# Altium integrated library Renesas Microcontroller H8S.IntLib: 670 symbols (part 50 of 70)
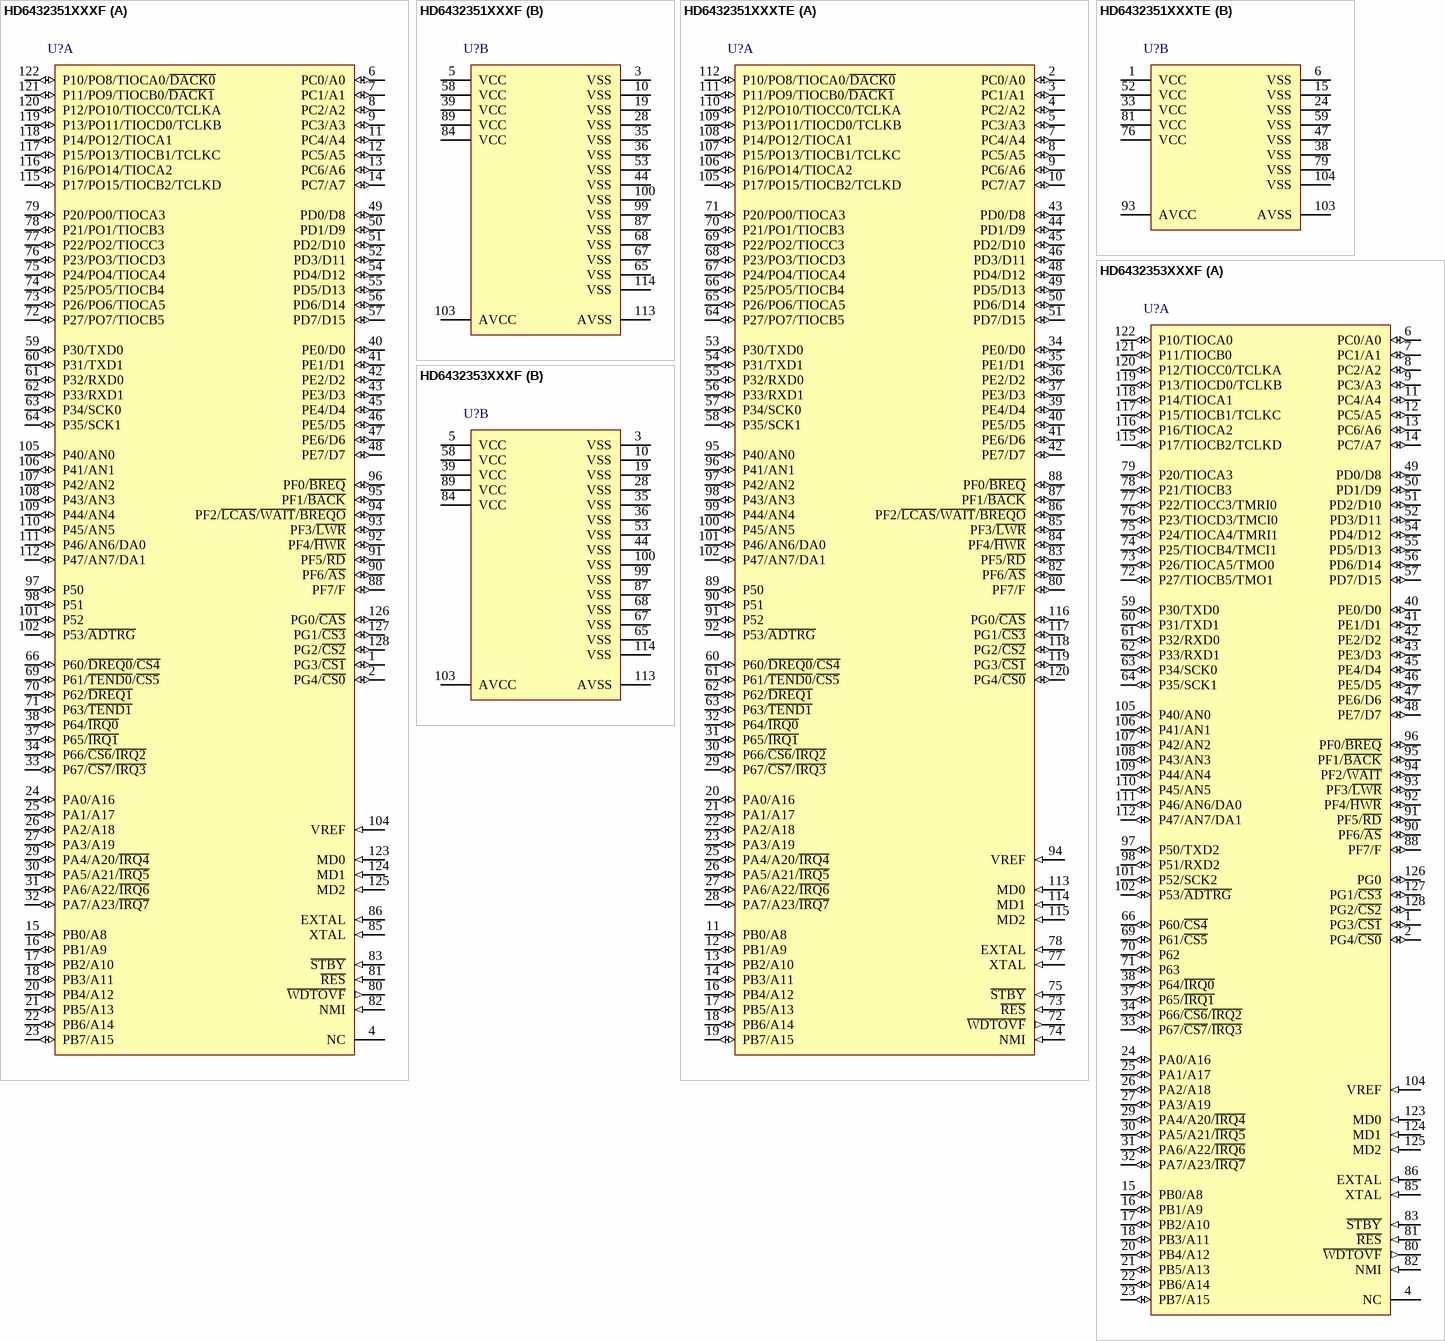
[diagram p369: symbols HD6432351XXXF to HD6432353XXXF]

## HD6432351XXXF
designator U?
Mask ROM H8S/2300 Series, 2350 Group MCU, 64K ROM, 2K RAM, FP-128B Pkg; Published: 28-Aug-2009; DatasheetVersion: Rev.3.00, Sep-2006; PackageVersion: Sep-2005; PackageReference: PRQP0128KB-A; Publisher: Altium Limited; PackageDescription: 128-Pin Plastic Quad Flat Pack, 20 x 14 x 2.7 mm Body, 0.5 mm Pitch; Code_JEITA: P-QFP128-14x20-0.50; Code_IPC: SQFP50P1600X2200-128; ComponentLink1Description: Manufacturer Link; ComponentLink1URL: http://sg.renesas.com/fmwk.jsp?cnt=h8s_family_landing.jsp&fp=/products/mpumcu/h8s_family/; ComponentLink2Description: Datasheet; ComponentLink2URL: http://documentation.renesas.com/eng/products/mpumcu/rej09b0330_2350hm.pdf; ComponentLink3Description: Packaging Specification; ComponentLink3URL: http://sg.renesas.com/media/products/common_info/package/pdf/ic/code/prqp0128kb_a.pdf
footprint PRQP0128KB-A_N (Shrink QFP, 128-Leads, Body 20x14 mm, Pitch 0.5mm, IPC Medium Density)
footprint PRQP0128KB-A_L (Shrink QFP, 128-Leads, Body 20x14 mm, Pitch 0.5mm, IPC High Density)
footprint PRQP0128KB-A_M (Shrink QFP, 128-Leads, Body 20x14 mm, Pitch 0.5mm, IPC Low Density)
part A pins: 1 PG3/~{CS1} (io), 2 PG4/~{CS0} (io), 4 NC, 6 PC0/A0 (io), 7 PC1/A1 (io), 8 PC2/A2 (io), 9 PC3/A3 (io), 11 PC4/A4 (io), 12 PC5/A5 (io), 13 PC6/A6 (io), 14 PC7/A7 (io), 15 PB0/A8 (io), 16 PB1/A9 (io), 17 PB2/A10 (io), 18 PB3/A11 (io), 20 PB4/A12 (io), 21 PB5/A13 (io), 22 PB6/A14 (io), 23 PB7/A15 (io), 24 PA0/A16 (io), 25 PA1/A17 (io), 26 PA2/A18 (io), 27 PA3/A19 (io), 29 PA4/A20/~{IRQ4} (io), 30 PA5/A21/~{IRQ5} (io), 31 PA6/A22/~{IRQ6} (io), 32 PA7/A23/~{IRQ7} (io), 33 P67/~{CS7}/~{IRQ3} (io), 34 P66/~{CS6}/~{IRQ2} (io), 37 P65/~{IRQ1} (io), 38 P64/~{IRQ0} (io), 40 PE0/D0 (io), 41 PE1/D1 (io), 42 PE2/D2 (io), 43 PE3/D3 (io), 45 PE4/D4 (io), 46 PE5/D5 (io), 47 PE6/D6 (io), 48 PE7/D7 (io), 49 PD0/D8 (io), 50 PD1/D9 (io), 51 PD2/D10 (io), 52 PD3/D11 (io), 54 PD4/D12 (io), 55 PD5/D13 (io), 56 PD6/D14 (io), 57 PD7/D15 (io), 59 P30/TXD0 (io), 60 P31/TXD1 (io), 61 P32/RXD0 (io), 62 P33/RXD1 (io), 63 P34/SCK0 (io), 64 P35/SCK1 (io), 66 P60/~{DREQ0}/~{CS4} (io), 69 P61/~{TEND0}/~{CS5} (io), 70 P62/~{DREQ1} (io), 71 P63/~{TEND1} (io), 72 P27/PO7/TIOCB5 (io), 73 P26/PO6/TIOCA5 (io), 74 P25/PO5/TIOCB4 (io), 75 P24/PO4/TIOCA4 (io), 76 P23/PO3/TIOCD3 (io), 77 P22/PO2/TIOCC3 (io), 78 P21/PO1/TIOCB3 (io), 79 P20/PO0/TIOCA3 (io), 80 ~{WDTOVF} (out), 81 ~{RES} (in), 82 NMI (in), 83 ~{STBY} (in), 85 XTAL (in), 86 EXTAL (in), 88 PF7/F (io), 90 PF6/~{AS} (io), 91 PF5/~{RD} (io), 92 PF4/~{HWR} (io), 93 PF3/~{LWR} (io), 94 PF2/~{LCAS}/~{WAIT}/~{BREQO} (io), 95 PF1/~{BACK} (io), 96 PF0/~{BREQ} (io), 97 P50 (io), 98 P51 (io), 101 P52 (io), 102 P53/~{ADTRG} (io), 104 VREF (in), 105 P40/AN0 (io), 106 P41/AN1 (io), 107 P42/AN2 (io), 108 P43/AN3 (io), 109 P44/AN4 (io), 110 P45/AN5 (io), 111 P46/AN6/DA0 (io), 112 P47/AN7/DA1 (io), 115 P17/PO15/TIOCB2/TCLKD (io), 116 P16/PO14/TIOCA2 (io), 117 P15/PO13/TIOCB1/TCLKC (io), 118 P14/PO12/TIOCA1 (io), 119 P13/PO11/TIOCD0/TCLKB (io), 120 P12/PO10/TIOCC0/TCLKA (io), 121 P11/PO9/TIOCB0/~{DACK1} (io), 122 P10/PO8/TIOCA0/~{DACK0} (io), 123 MD0 (in), 124 MD1 (in), 125 MD2 (in), 126 PG0/~{CAS} (io), 127 PG1/~{CS3} (io), 128 PG2/~{CS2} (io)
part B pins: 3 VSS (power), 5 VCC (power), 10 VSS (power), 19 VSS (power), 28 VSS (power), 35 VSS (power), 36 VSS (power), 39 VCC (power), 44 VSS (power), 53 VSS (power), 58 VCC (power), 65 VSS (power), 67 VSS (power), 68 VSS (power), 84 VCC (power), 87 VSS (power), 89 VCC (power), 99 VSS (power), 100 VSS (power), 103 AVCC (power), 113 AVSS (power), 114 VSS (power)

## HD6432351XXXTE
designator U?
Mask ROM H8S/2300 Series, 2350 Group MCU, 64K ROM, 2K RAM, TFP-120 Pkg; Published: 28-Aug-2009; DatasheetVersion: Rev.3.00, Sep-2006; PackageVersion: Sep-2005; PackageReference: PTQP0120LA-A; Publisher: Altium Limited; PackageDescription: 120-Pin Plastic Thin QFP, 14 x 14 x 1.0 mm Body, 0.4 mm Pitch; Code_JEITA: P-TQFP120-14x14-0.40; ComponentLink1Description: Manufacturer Link; ComponentLink1URL: http://sg.renesas.com/fmwk.jsp?cnt=h8s_family_landing.jsp&fp=/products/mpumcu/h8s_family/; ComponentLink2Description: Datasheet; ComponentLink2URL: http://documentation.renesas.com/eng/products/mpumcu/rej09b0330_2350hm.pdf; ComponentLink3Description: Packaging Specification; ComponentLink3URL: http://sg.renesas.com/media/products/common_info/package/pdf/ic/code/ptqp0120la_a.pdf
footprint PTQP0120LA-A_N (Thin QFP, 120-Leads, Body 14x14mm, Pitch 0.4mm, IPC Medium Density)
footprint PTQP0120LA-A_L (Thin QFP, 120-Leads, Body 14x14mm, Pitch 0.4mm, IPC High Density)
footprint PTQP0120LA-A_M (Thin QFP, 120-Leads, Body 14x14mm, Pitch 0.4mm, IPC Low Density)
part A pins: 2 PC0/A0 (io), 3 PC1/A1 (io), 4 PC2/A2 (io), 5 PC3/A3 (io), 7 PC4/A4 (io), 8 PC5/A5 (io), 9 PC6/A6 (io), 10 PC7/A7 (io), 11 PB0/A8 (io), 12 PB1/A9 (io), 13 PB2/A10 (io), 14 PB3/A11 (io), 16 PB4/A12 (io), 17 PB5/A13 (io), 18 PB6/A14 (io), 19 PB7/A15 (io), 20 PA0/A16 (io), 21 PA1/A17 (io), 22 PA2/A18 (io), 23 PA3/A19 (io), 25 PA4/A20/~{IRQ4} (io), 26 PA5/A21/~{IRQ5} (io), 27 PA6/A22/~{IRQ6} (io), 28 PA7/A23/~{IRQ7} (io), 29 P67/~{CS7}/~{IRQ3} (io), 30 P66/~{CS6}/~{IRQ2} (io), 31 P65/~{IRQ1} (io), 32 P64/~{IRQ0} (io), 34 PE0/D0 (io), 35 PE1/D1 (io), 36 PE2/D2 (io), 37 PE3/D3 (io), 39 PE4/D4 (io), 40 PE5/D5 (io), 41 PE6/D6 (io), 42 PE7/D7 (io), 43 PD0/D8 (io), 44 PD1/D9 (io), 45 PD2/D10 (io), 46 PD3/D11 (io), 48 PD4/D12 (io), 49 PD5/D13 (io), 50 PD6/D14 (io), 51 PD7/D15 (io), 53 P30/TXD0 (io), 54 P31/TXD1 (io), 55 P32/RXD0 (io), 56 P33/RXD1 (io), 57 P34/SCK0 (io), 58 P35/SCK1 (io), 60 P60/~{DREQ0}/~{CS4} (io), 61 P61/~{TEND0}/~{CS5} (io), 62 P62/~{DREQ1} (io), 63 P63/~{TEND1} (io), 64 P27/PO7/TIOCB5 (io), 65 P26/PO6/TIOCA5 (io), 66 P25/PO5/TIOCB4 (io), 67 P24/PO4/TIOCA4 (io), 68 P23/PO3/TIOCD3 (io), 69 P22/PO2/TIOCC3 (io), 70 P21/PO1/TIOCB3 (io), 71 P20/PO0/TIOCA3 (io), 72 ~{WDTOVF} (out), 73 ~{RES} (in), 74 NMI (in), 75 ~{STBY} (in), 77 XTAL (in), 78 EXTAL (in), 80 PF7/F (io), 82 PF6/~{AS} (io), 83 PF5/~{RD} (io), 84 PF4/~{HWR} (io), 85 PF3/~{LWR} (io), 86 PF2/~{LCAS}/~{WAIT}/~{BREQO} (io), 87 PF1/~{BACK} (io), 88 PF0/~{BREQ} (io), 89 P50 (io), 90 P51 (io), 91 P52 (io), 92 P53/~{ADTRG} (io), 94 VREF (in), 95 P40/AN0 (io), 96 P41/AN1 (io), 97 P42/AN2 (io), 98 P43/AN3 (io), 99 P44/AN4 (io), 100 P45/AN5 (io), 101 P46/AN6/DA0 (io), 102 P47/AN7/DA1 (io), 105 P17/PO15/TIOCB2/TCLKD (io), 106 P16/PO14/TIOCA2 (io), 107 P15/PO13/TIOCB1/TCLKC (io), 108 P14/PO12/TIOCA1 (io), 109 P13/PO11/TIOCD0/TCLKB (io), 110 P12/PO10/TIOCC0/TCLKA (io), 111 P11/PO9/TIOCB0/~{DACK1} (io), 112 P10/PO8/TIOCA0/~{DACK0} (io), 113 MD0 (in), 114 MD1 (in), 115 MD2 (in), 116 PG0/~{CAS} (io), 117 PG1/~{CS3} (io), 118 PG2/~{CS2} (io), 119 PG3/~{CS1} (io), 120 PG4/~{CS0} (io)
part B pins: 1 VCC (power), 6 VSS (power), 15 VSS (power), 24 VSS (power), 33 VCC (power), 38 VSS (power), 47 VSS (power), 52 VCC (power), 59 VSS (power), 76 VCC (power), 79 VSS (power), 81 VCC (power), 93 AVCC (power), 103 AVSS (power), 104 VSS (power)

## HD6432353XXXF
designator U?
Mask ROM H8S/2300 Series, 2355 Group MCU, 64K ROM, 2K RAM, FP-128B Pkg; Published: 28-Aug-2009; DatasheetVersion: Rev.4.00, Feb-2007; PackageVersion: Sep-2005; PackageReference: PRQP0128KB-A; Publisher: Altium Limited; PackageDescription: 128-Pin Plastic Quad Flat Pack, 20 x 14 x 2.7 mm Body, 0.5 mm Pitch; Code_JEITA: P-QFP128-14x20-0.50; Code_IPC: SQFP50P1600X2200-128; ComponentLink1Description: Manufacturer Link; ComponentLink1URL: http://sg.renesas.com/fmwk.jsp?cnt=h8s_family_landing.jsp&fp=/products/mpumcu/h8s_family/; ComponentLink2Description: Datasheet; ComponentLink2URL: http://documentation.renesas.com/eng/products/mpumcu/rej09b0354_2355hm.pdf; ComponentLink3Description: Packaging Specification; ComponentLink3URL: http://sg.renesas.com/media/products/common_info/package/pdf/ic/code/prqp0128kb_a.pdf
footprint PRQP0128KB-A_N (Shrink QFP, 128-Leads, Body 20x14 mm, Pitch 0.5mm, IPC Medium Density)
footprint PRQP0128KB-A_L (Shrink QFP, 128-Leads, Body 20x14 mm, Pitch 0.5mm, IPC High Density)
footprint PRQP0128KB-A_M (Shrink QFP, 128-Leads, Body 20x14 mm, Pitch 0.5mm, IPC Low Density)
part A pins: 1 PG3/~{CS1} (io), 2 PG4/~{CS0} (io), 4 NC, 6 PC0/A0 (io), 7 PC1/A1 (io), 8 PC2/A2 (io), 9 PC3/A3 (io), 11 PC4/A4 (io), 12 PC5/A5 (io), 13 PC6/A6 (io), 14 PC7/A7 (io), 15 PB0/A8 (io), 16 PB1/A9 (io), 17 PB2/A10 (io), 18 PB3/A11 (io), 20 PB4/A12 (io), 21 PB5/A13 (io), 22 PB6/A14 (io), 23 PB7/A15 (io), 24 PA0/A16 (io), 25 PA1/A17 (io), 26 PA2/A18 (io), 27 PA3/A19 (io), 29 PA4/A20/~{IRQ4} (io), 30 PA5/A21/~{IRQ5} (io), 31 PA6/A22/~{IRQ6} (io), 32 PA7/A23/~{IRQ7} (io), 33 P67/~{CS7}/~{IRQ3} (io), 34 P66/~{CS6}/~{IRQ2} (io), 37 P65/~{IRQ1} (io), 38 P64/~{IRQ0} (io), 40 PE0/D0 (io), 41 PE1/D1 (io), 42 PE2/D2 (io), 43 PE3/D3 (io), 45 PE4/D4 (io), 46 PE5/D5 (io), 47 PE6/D6 (io), 48 PE7/D7 (io), 49 PD0/D8 (io), 50 PD1/D9 (io), 51 PD2/D10 (io), 52 PD3/D11 (io), 54 PD4/D12 (io), 55 PD5/D13 (io), 56 PD6/D14 (io), 57 PD7/D15 (io), 59 P30/TXD0 (io), 60 P31/TXD1 (io), 61 P32/RXD0 (io), 62 P33/RXD1 (io), 63 P34/SCK0 (io), 64 P35/SCK1 (io), 66 P60/~{CS4} (io), 69 P61/~{CS5} (io), 70 P62 (io), 71 P63 (io), 72 P27/TIOCB5/TMO1 (io), 73 P26/TIOCA5/TMO0 (io), 74 P25/TIOCB4/TMCI1 (io), 75 P24/TIOCA4/TMRI1 (io), 76 P23/TIOCD3/TMCI0 (io), 77 P22/TIOCC3/TMRI0 (io), 78 P21/TIOCB3 (io), 79 P20/TIOCA3 (io), 80 ~{WDTOVF} (out), 81 ~{RES} (in), 82 NMI (in), 83 ~{STBY} (in), 85 XTAL (in), 86 EXTAL (in), 88 PF7/F (io), 90 PF6/~{AS} (io), 91 PF5/~{RD} (io), 92 PF4/~{HWR} (io), 93 PF3/~{LWR} (io), 94 PF2/~{WAIT} (io), 95 PF1/~{BACK} (io), 96 PF0/~{BREQ} (io), 97 P50/TXD2 (io), 98 P51/RXD2 (io), 101 P52/SCK2 (io), 102 P53/~{ADTRG} (io), 104 VREF (in), 105 P40/AN0 (io), 106 P41/AN1 (io), 107 P42/AN2 (io), 108 P43/AN3 (io), 109 P44/AN4 (io), 110 P45/AN5 (io), 111 P46/AN6/DA0 (io), 112 P47/AN7/DA1 (io), 115 P17/TIOCB2/TCLKD (io), 116 P16/TIOCA2 (io), 117 P15/TIOCB1/TCLKC (io), 118 P14/TIOCA1 (io), 119 P13/TIOCD0/TCLKB (io), 120 P12/TIOCC0/TCLKA (io), 121 P11/TIOCB0 (io), 122 P10/TIOCA0 (io), 123 MD0 (in), 124 MD1 (in), 125 MD2 (in), 126 PG0 (io), 127 PG1/~{CS3} (io), 128 PG2/~{CS2} (io)
part B pins: 3 VSS (power), 5 VCC (power), 10 VSS (power), 19 VSS (power), 28 VSS (power), 35 VSS (power), 36 VSS (power), 39 VCC (power), 44 VSS (power), 53 VSS (power), 58 VCC (power), 65 VSS (power), 67 VSS (power), 68 VSS (power), 84 VCC (power), 87 VSS (power), 89 VCC (power), 99 VSS (power), 100 VSS (power), 103 AVCC (power), 113 AVSS (power), 114 VSS (power)

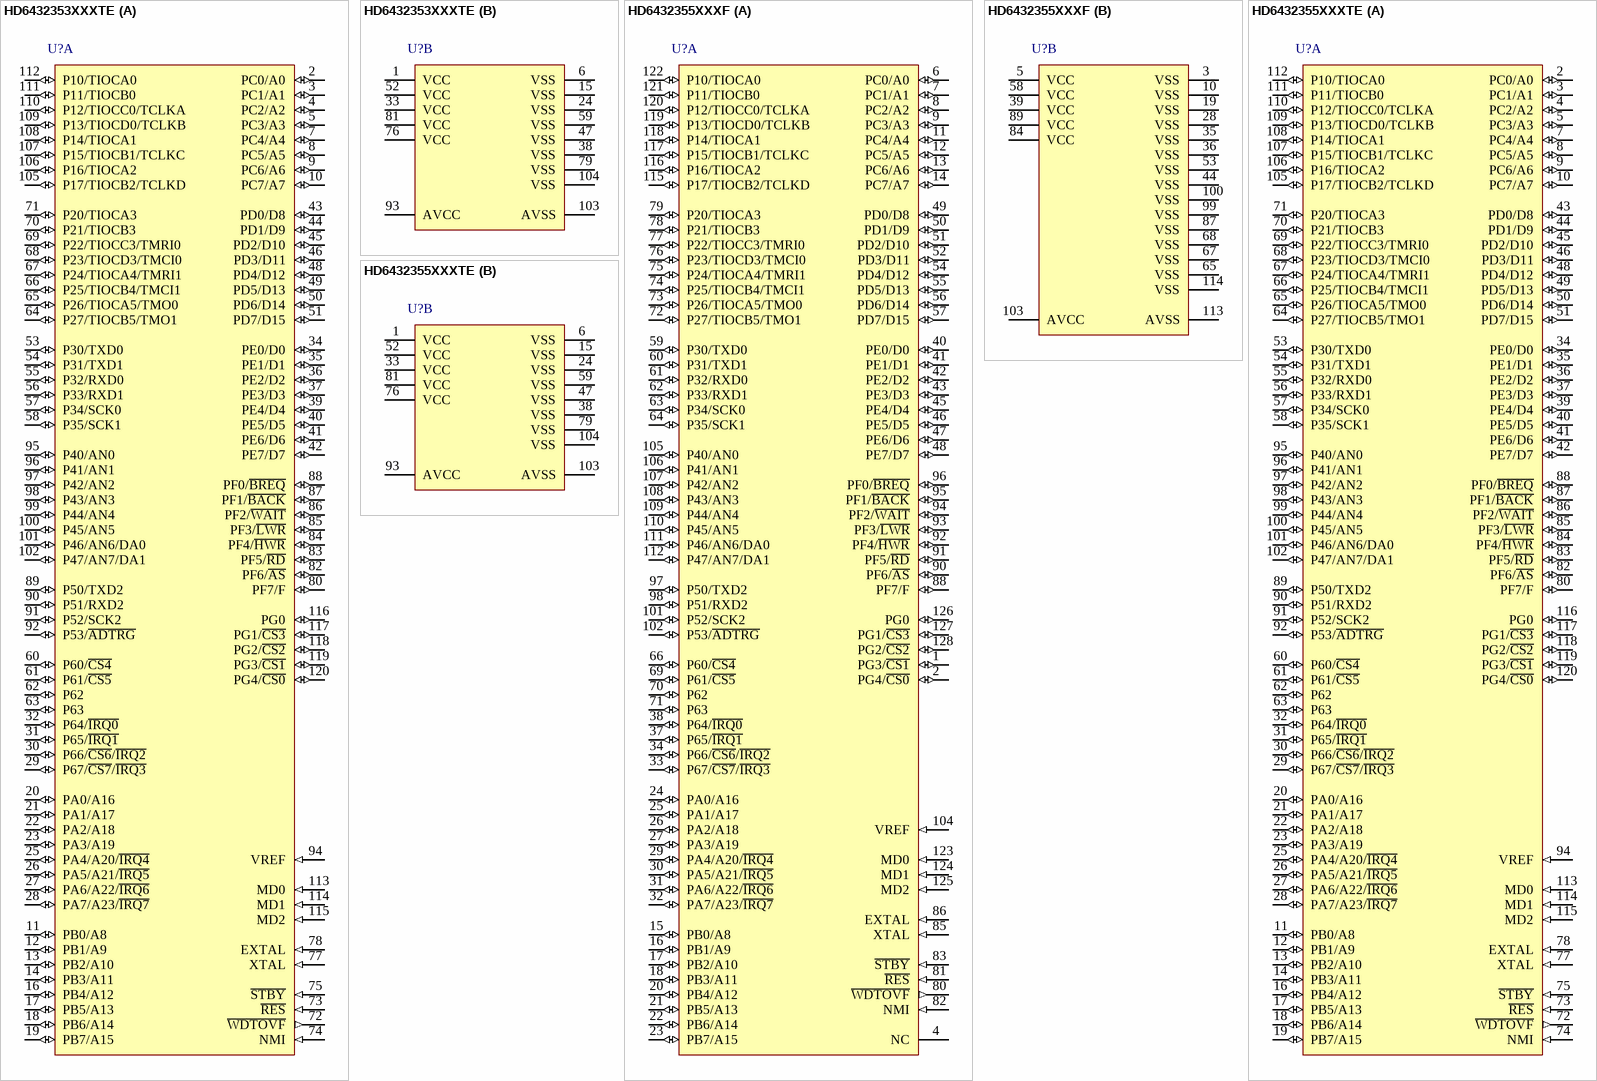
[diagram p175: symbols HD6432353XXXTE to HD6432355XXXTE]

## HD6432353XXXTE
designator U?
Mask ROM H8S/2300 Series, 2355 Group MCU, 64K ROM, 2K RAM, TFP-120 Pkg; Published: 28-Aug-2009; DatasheetVersion: Rev.4.00, Feb-2007; PackageVersion: Sep-2005; PackageReference: PTQP0120LA-A; Publisher: Altium Limited; PackageDescription: 120-Pin Plastic Thin QFP, 14 x 14 x 1.0 mm Body, 0.4 mm Pitch; Code_JEITA: P-TQFP120-14x14-0.40; ComponentLink1Description: Manufacturer Link; ComponentLink1URL: http://sg.renesas.com/fmwk.jsp?cnt=h8s_family_landing.jsp&fp=/products/mpumcu/h8s_family/; ComponentLink2Description: Datasheet; ComponentLink2URL: http://documentation.renesas.com/eng/products/mpumcu/rej09b0354_2355hm.pdf; ComponentLink3Description: Packaging Specification; ComponentLink3URL: http://sg.renesas.com/media/products/common_info/package/pdf/ic/code/ptqp0120la_a.pdf
footprint PTQP0120LA-A_N (Thin QFP, 120-Leads, Body 14x14mm, Pitch 0.4mm, IPC Medium Density)
footprint PTQP0120LA-A_L (Thin QFP, 120-Leads, Body 14x14mm, Pitch 0.4mm, IPC High Density)
footprint PTQP0120LA-A_M (Thin QFP, 120-Leads, Body 14x14mm, Pitch 0.4mm, IPC Low Density)
part A pins: 2 PC0/A0 (io), 3 PC1/A1 (io), 4 PC2/A2 (io), 5 PC3/A3 (io), 7 PC4/A4 (io), 8 PC5/A5 (io), 9 PC6/A6 (io), 10 PC7/A7 (io), 11 PB0/A8 (io), 12 PB1/A9 (io), 13 PB2/A10 (io), 14 PB3/A11 (io), 16 PB4/A12 (io), 17 PB5/A13 (io), 18 PB6/A14 (io), 19 PB7/A15 (io), 20 PA0/A16 (io), 21 PA1/A17 (io), 22 PA2/A18 (io), 23 PA3/A19 (io), 25 PA4/A20/~{IRQ4} (io), 26 PA5/A21/~{IRQ5} (io), 27 PA6/A22/~{IRQ6} (io), 28 PA7/A23/~{IRQ7} (io), 29 P67/~{CS7}/~{IRQ3} (io), 30 P66/~{CS6}/~{IRQ2} (io), 31 P65/~{IRQ1} (io), 32 P64/~{IRQ0} (io), 34 PE0/D0 (io), 35 PE1/D1 (io), 36 PE2/D2 (io), 37 PE3/D3 (io), 39 PE4/D4 (io), 40 PE5/D5 (io), 41 PE6/D6 (io), 42 PE7/D7 (io), 43 PD0/D8 (io), 44 PD1/D9 (io), 45 PD2/D10 (io), 46 PD3/D11 (io), 48 PD4/D12 (io), 49 PD5/D13 (io), 50 PD6/D14 (io), 51 PD7/D15 (io), 53 P30/TXD0 (io), 54 P31/TXD1 (io), 55 P32/RXD0 (io), 56 P33/RXD1 (io), 57 P34/SCK0 (io), 58 P35/SCK1 (io), 60 P60/~{CS4} (io), 61 P61/~{CS5} (io), 62 P62 (io), 63 P63 (io), 64 P27/TIOCB5/TMO1 (io), 65 P26/TIOCA5/TMO0 (io), 66 P25/TIOCB4/TMCI1 (io), 67 P24/TIOCA4/TMRI1 (io), 68 P23/TIOCD3/TMCI0 (io), 69 P22/TIOCC3/TMRI0 (io), 70 P21/TIOCB3 (io), 71 P20/TIOCA3 (io), 72 ~{WDTOVF} (out), 73 ~{RES} (in), 74 NMI (in), 75 ~{STBY} (in), 77 XTAL (in), 78 EXTAL (in), 80 PF7/F (io), 82 PF6/~{AS} (io), 83 PF5/~{RD} (io), 84 PF4/~{HWR} (io), 85 PF3/~{LWR} (io), 86 PF2/~{WAIT} (io), 87 PF1/~{BACK} (io), 88 PF0/~{BREQ} (io), 89 P50/TXD2 (io), 90 P51/RXD2 (io), 91 P52/SCK2 (io), 92 P53/~{ADTRG} (io), 94 VREF (in), 95 P40/AN0 (io), 96 P41/AN1 (io), 97 P42/AN2 (io), 98 P43/AN3 (io), 99 P44/AN4 (io), 100 P45/AN5 (io), 101 P46/AN6/DA0 (io), 102 P47/AN7/DA1 (io), 105 P17/TIOCB2/TCLKD (io), 106 P16/TIOCA2 (io), 107 P15/TIOCB1/TCLKC (io), 108 P14/TIOCA1 (io), 109 P13/TIOCD0/TCLKB (io), 110 P12/TIOCC0/TCLKA (io), 111 P11/TIOCB0 (io), 112 P10/TIOCA0 (io), 113 MD0 (in), 114 MD1 (in), 115 MD2 (in), 116 PG0 (io), 117 PG1/~{CS3} (io), 118 PG2/~{CS2} (io), 119 PG3/~{CS1} (io), 120 PG4/~{CS0} (io)
part B pins: 1 VCC (power), 6 VSS (power), 15 VSS (power), 24 VSS (power), 33 VCC (power), 38 VSS (power), 47 VSS (power), 52 VCC (power), 59 VSS (power), 76 VCC (power), 79 VSS (power), 81 VCC (power), 93 AVCC (power), 103 AVSS (power), 104 VSS (power)